# Altium footprint library LM2596.PcbLib: 1 footprints
Each footprint in its own frame and in the unit in brackets; x right, y up, seen from the top. Pads: shape width x height; smd on the part's side, far side on the other; paste and mask are expansions set on the pad; w line width, h text height; cw(c..) or ccw(c..) is an arc to the next point about the centre after c.
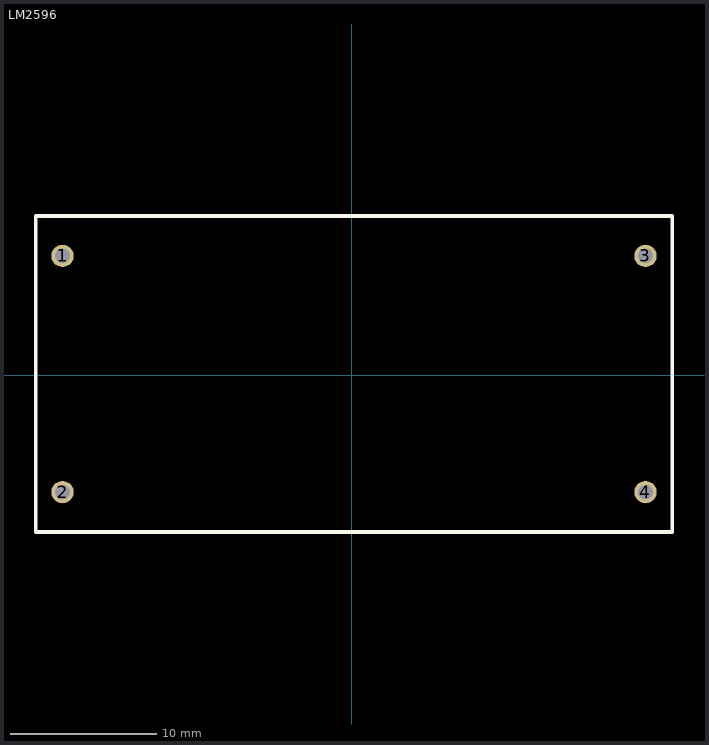
[diagram p0: the footprint, top view; thin cyan lines are the x and y axes]

## LM2596 [mm]
pads (4):
  round 1.524 hole 1: 1(-19.775,8.175) 2(-19.775,-7.975) 3(20.075,8.175) 4(20.075,-7.975)
Top Overlay:
  lines w0.254: -21.6,-10.7 21.9,-10.7 21.9,10.9 -21.6,10.9 -21.6,-10.7
3D body "LM2596 DC-DC stepdown voltage converter.STEP": height 11.5, standoff -0.2, extent -21.65,-10.8 21.85,10.8